# EAGLE library part DG409 (library ds_ic_peripherals)
DG409 is a dual 4 channel differential analog multiplexer designed to connect one of four differential inputs to a common dual output as determined by its 2-bit binary address (A0, A1)
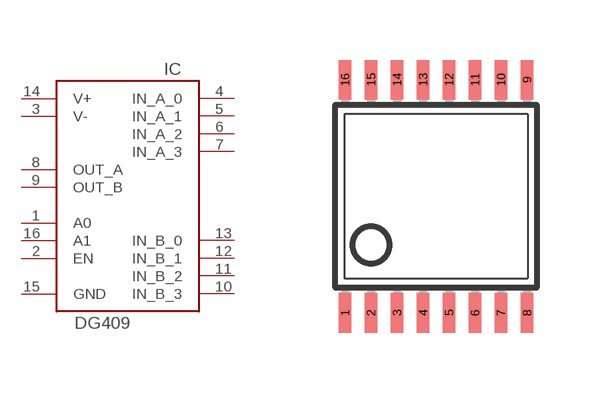
[diagram p85: symbol with the pads of TSSOP2; footprint TSSOP2]

Designator prefix IC

## DG409EUE+  [TSSOP2]
1  A0  in
2  EN  in
3  V-  pwr
4  IN_A_0  in
5  IN_A_1  in
6  IN_A_2  in
7  IN_A_3  in
8  OUT_A  out
9  OUT_B  out
10  IN_B_3  in
11  IN_B_2  in
12  IN_B_1  in
13  IN_B_0  in
14  V+  pwr
15  GND  pwr
16  A1  in

## Footprint TSSOP2 (pad centres in mm)
smd 0.305 x 0.991: 1 -2.275,-2.918; 2 -1.625,-2.918; 3 -0.975,-2.918; 4 -0.325,-2.918; 5 0.325,-2.918; 6 0.975,-2.918; 7 1.625,-2.918; 8 2.275,-2.918; 9 2.275,2.918; 10 1.625,2.918; 11 0.975,2.918; 12 0.325,2.918; 13 -0.325,2.918; 14 -0.975,2.918; 15 -1.625,2.918; 16 -2.275,2.918